# Altium footprint library DFN.PcbLib: 4 footprints
Each footprint in its own frame and in the unit in brackets; x right, y up, seen from the top. Pads: shape width x height; smd on the part's side, far side on the other; paste and mask are expansions set on the pad; w line width, h text height; cw(c..) or ccw(c..) is an arc to the next point about the centre after c.
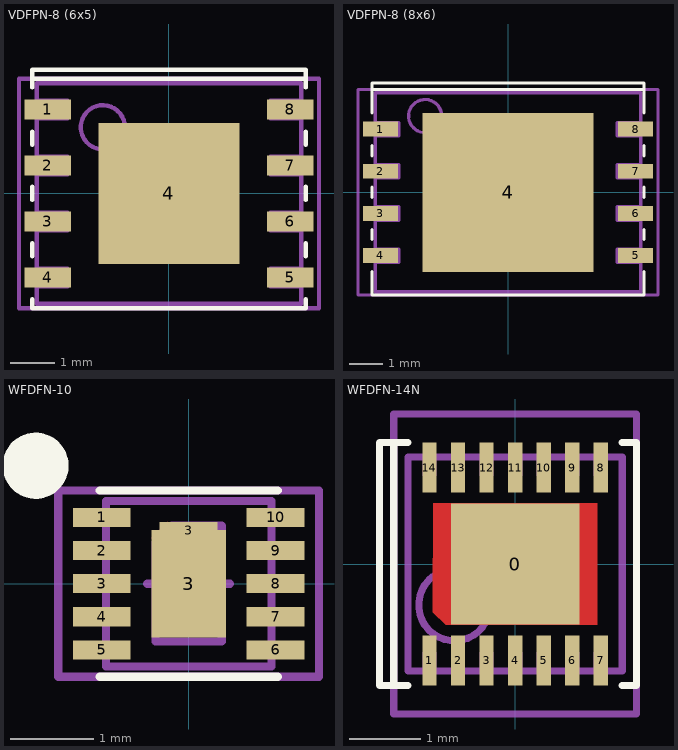
[diagram p0: the footprints below, top view; thin cyan lines are the x and y axes]

## VDFPN-8 (6x5) [mm]
height 1
pads (9):
  rect 1.05x0.45 smd: 1(-2.75,1.905) 2(-2.75,0.635) 3(-2.75,-0.635) 4(-2.75,-1.905) 5(2.75,-1.905) 6(2.75,-0.635) 7(2.75,0.635) 8(2.75,1.905)
  rect 3.2x3.2 smd: 4(0,0)
Top Overlay:
  lines w0.1: -3.1,-2.4 -3.1,-2.6 3.1,-2.6 3.1,-2.4 ; -3.1,-1.425 -3.1,-1.125 ; -3.1,-0.15 -3.1,0.15 ; -3.1,1.1 -3.1,1.4 ; -3.1,2.4 -3.1,2.8 3.1,2.8 3.1,2.4 ; -3.1,2.6 3.1,2.6 ; 3.1,-1.425 3.1,-1.125 ; 3.1,-0.15 3.1,0.15 ; 3.1,1.1 3.1,1.4
Top Package:
  circle w0.1: c-1.5,1.5 r0.5
  lines w0.1: -3,-2.11 -2.3,-2.11 -2.3,-1.71 -3,-1.71 ; -3,-0.84 -2.3,-0.84 -2.3,-0.44 -3,-0.44 ; -3,0.43 -2.3,0.43 -2.3,0.83 -3,0.83 ; -3,1.7 -2.3,1.7 -2.3,2.1 -3,2.1 ; 3,-2.11 2.3,-2.11 2.3,-1.71 3,-1.71 ; 3,-0.84 2.3,-0.84 2.3,-0.44 3,-0.44 ; 3,0.43 2.3,0.43 2.3,0.83 3,0.83 ; 3,1.7 2.3,1.7 2.3,2.1 3,2.1 ; -3,-2.5 3,-2.5 3,2.5 -3,2.5 -3,-2.5
Top Border:
  lines w0.1: -0.5,0 0.5,0 ; 0,-0.5 0,0.5 ; -3.4,-2.6 3.4,-2.6 3.4,2.6 -3.4,2.6 -3.4,-2.6
3D body "VDFPN-8 (6x5).STEP": height 0.95, standoff 0, extent -3.05,-2.5 3.05,2.5

## VDFPN-8 (8x6) [mm]
height 1
pads (9):
  rect 1.05x0.45 smd: 1(-3.85,1.905) 2(-3.85,0.635) 3(-3.85,-0.635) 4(-3.85,-1.905) 5(3.85,-1.905) 6(3.85,-0.635) 7(3.85,0.635) 8(3.85,1.905)
  rect 5.15x4.8 smd: 4(0,0)
Top Layer:
  pour cut-out: -2.5,2.072 -2.466,2.072 -2.402,2.046 -2.354,1.998 -2.328,1.934 -2.328,1.9 -2.328,1.866 -2.354,1.802 -2.402,1.754 -2.466,1.728 -2.5,1.728
Top Overlay:
  lines w0.1: -4.1,-2.4 -4.1,-3.1 4.1,-3.1 4.1,-2.4 ; -4.1,-1.425 -4.1,-1.125 ; -4.1,-0.15 -4.1,0.15 ; -4.1,1.1 -4.1,1.4 ; -4.1,2.4 -4.1,3.1 ; 4.1,-1.425 4.1,-1.125 ; 4.1,-0.15 4.1,0.15 ; 4.1,1.1 4.1,1.4 ; 4.1,2.4 4.1,3.1 ; -4.1,3.1 4.1,3.1 ; -4.1,3.1 -4.1,3.3 4.1,3.3 4.1,3.1
Top Package:
  circle w0.1: c-2.5,2.3 r0.5
  lines w0.1: -4,-2.11 -3.3,-2.11 -3.3,-1.71 -4,-1.71 ; -4,-0.84 -3.3,-0.84 -3.3,-0.44 -4,-0.44 ; -4,0.43 -3.3,0.43 -3.3,0.83 -4,0.83 ; -4,1.7 -3.3,1.7 -3.3,2.1 -4,2.1 ; 4,-2.11 3.3,-2.11 3.3,-1.71 4,-1.71 ; 4,-0.84 3.3,-0.84 3.3,-0.44 4,-0.44 ; 4,0.43 3.3,0.43 3.3,0.83 4,0.83 ; 4,1.7 3.3,1.7 3.3,2.1 4,2.1 ; -4,-3 -4,3 4,3 4,-3 -4,-3
Top Border:
  lines w0.1: -0.5,0 0.5,0 ; 0,-0.5 0,0.5 ; -4.525,-3.1 -4.525,3.1 4.525,3.1 4.525,-3.1 -4.525,-3.1
3D body "VDFPN-8 (8x6).step": height 1, standoff 0, extent -4,-3 4,3

## WFDFN-10 [mm] "WFDFN-10 2x2x0.9mm"
height 0.8
pads (12):
  rect 0.7x0.23 smd: 1(-1.05,0.8) 2(-1.05,0.4) 3(-1.05,0) 4(-1.05,-0.4) 5(-1.05,-0.8) 6(1.05,-0.8) 7(1.05,-0.4) 8(1.05,0) 9(1.05,0.4) 10(1.05,0.8)
  rect 0.9x1.3 smd: 3(0,0)
  rect 0.7x0.2 smd: 3(0,0.645)
Top Layer:
  region: -0.25,0.55 -0.45,0.55 -0.25,0.75
Top Overlay:
  circle w0.4: c-1.85,1.425 r0.2
  lines w0.1: -1.075,-1.125 1.075,-1.125 ; -1.075,1.125 1.075,1.125
Top Package:
  lines w0.1: -1,-0.85 -0.8,-0.85 -0.8,-0.75 -1,-0.75 ; -1,-0.45 -0.8,-0.45 -0.8,-0.35 -1,-0.35 ; -1,-0.05 -0.8,-0.05 -0.8,0.05 -1,0.05 ; -1,0.35 -0.8,0.35 -0.8,0.45 -1,0.45 ; -1,0.75 -0.8,0.75 -0.8,0.85 -1,0.85 ; 1,-0.85 0.8,-0.85 0.8,-0.75 1,-0.75 ; 1,-0.45 0.8,-0.45 0.8,-0.35 1,-0.35 ; 1,-0.05 0.8,-0.05 0.8,0.05 1,0.05 ; 1,0.35 0.8,0.35 0.8,0.45 1,0.45 ; 1,0.75 0.8,0.75 0.8,0.85 1,0.85 ; -1,-1 1,-1 1,1 -1,1 -1,-1 ; -0.4,-0.7 -0.4,0.5 -0.2,0.7 0.4,0.7 0.4,-0.7 -0.4,-0.7
Top Border:
  lines w0.1: -0.5,0 0,0 ; 0,-0.5 0,0 ; 0,0.5 0,0 ; 0.5,0 0,0 ; -1.575,-1.125 1.575,-1.125 1.575,1.125 -1.575,1.125 -1.575,-1.125
3D body "WFDFN-10.stp": height 0.79, standoff 0, extent -1.105,-1.054 1.105,1.054

## WFDFN-14N [mm]
height 0.75
pads (15):
  rect 1.8x1.7 smd: 0(0,0)
  rect 0.2x0.7 smd: 1(-1.2,-1.35) 2(-0.8,-1.35) 3(-0.4,-1.35) 4(0,-1.35) 5(0.4,-1.35) 6(0.8,-1.35) 7(1.2,-1.35) 8(1.2,1.35) 9(0.8,1.35) 10(0.4,1.35) 11(0,1.35) 12(-0.4,1.35) 13(-0.8,1.35) 14(-1.2,1.35)
Top Layer:
  region: -1.15,0.85 -1.15,-0.675 -0.975,-0.85 1.15,-0.85 1.15,0.85
Top Overlay:
  lines w0.1: -1.5,-1.7 -1.7,-1.7 ; -1.5,1.7 -1.7,1.7 ; 1.5,-1.7 1.7,-1.7 1.7,1.7 1.5,1.7 ; -1.7,-1.7 -1.7,1.7 ; -1.7,-1.7 -1.9,-1.7 -1.9,1.7 -1.7,1.7
Top Package:
  circle w0.1: c-0.85,-0.575 r0.5
  lines w0.1: -1.25,-1.5 -1.25,-1.25 -1.15,-1.25 -1.15,-1.5 ; -1.25,1.5 -1.25,1.25 -1.15,1.25 -1.15,1.5 ; -0.85,-1.5 -0.85,-1.25 -0.75,-1.25 -0.75,-1.5 ; -0.85,1.5 -0.85,1.25 -0.75,1.25 -0.75,1.5 ; -0.45,-1.5 -0.45,-1.25 -0.35,-1.25 -0.35,-1.5 ; -0.45,1.5 -0.45,1.25 -0.35,1.25 -0.35,1.5 ; -0.05,-1.5 -0.05,-1.25 0.05,-1.25 0.05,-1.5 ; -0.05,1.5 -0.05,1.25 0.05,1.25 0.05,1.5 ; 0.35,-1.5 0.35,-1.25 0.45,-1.25 0.45,-1.5 ; 0.35,1.5 0.35,1.25 0.45,1.25 0.45,1.5 ; 0.75,-1.5 0.75,-1.25 0.85,-1.25 0.85,-1.5 ; 0.75,1.5 0.75,1.25 0.85,1.25 0.85,1.5 ; 1.15,-1.5 1.15,-1.25 1.25,-1.25 1.25,-1.5 ; 1.15,1.5 1.15,1.25 1.25,1.25 1.25,1.5 ; -1.5,-1.5 1.5,-1.5 1.5,1.5 -1.5,1.5 -1.5,-1.5
Top Border:
  lines w0.1: -0.5,0 0.5,0 ; 0,-0.5 0,0.5 ; -1.7,-2.1 1.7,-2.1 1.7,2.1 -1.7,2.1 -1.7,-2.1
3D body "TDFN-EP-14.step": height 0.73, standoff -0.03, extent -1.5,-1.505 1.5,1.505